# Altium footprint library AltiumDesigner.PcbLib: 3 footprints
Each footprint in its own frame and in the unit in brackets; x right, y up, seen from the top. Pads: shape width x height; smd on the part's side, far side on the other; paste and mask are expansions set on the pad; w line width, h text height; cw(c..) or ccw(c..) is an arc to the next point about the centre after c.
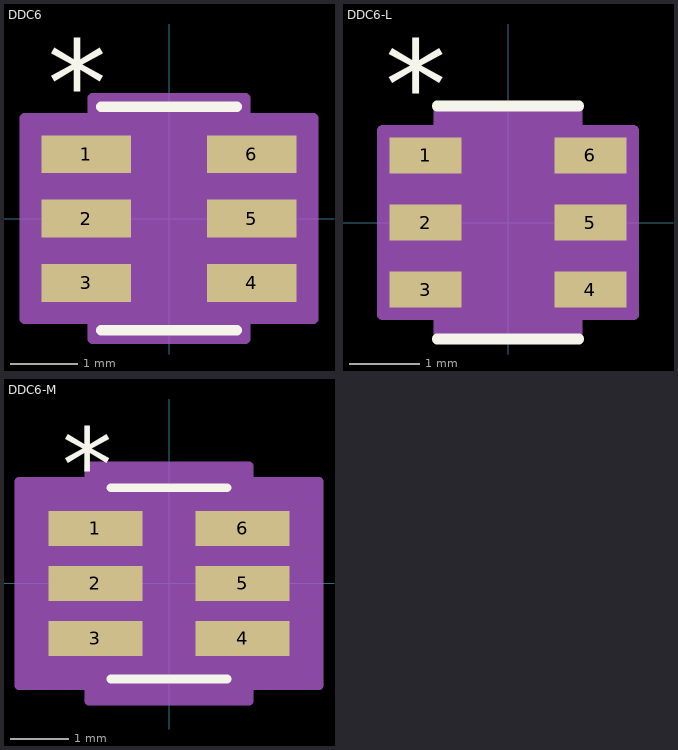
[diagram p0: the footprints below, top view; thin cyan lines are the x and y axes]

## DDC6 [mil]
pads (6):
  rect 52x22 smd paste+0 mask+0: 1(-48,37.4) 2(-48,0) 3(-48,-37.4) 4(48,-37.4) 5(48,0) 6(48,37.4)
Top Overlay:
  lines w6: -39.5,-65 39.5,-65 ; -39.5,65 39.5,65
  text "*" at -70.5,54.4 h50
Mechanical 13:
  lines w0: -12,60 ccw(c0,60) 12,60
  lines w1: -60,-47.4 -60,-27.4 -34.5,-27.4 -34.5,-47.4 -60,-47.4 ; -60,-10 -60,10 -34.5,10 -34.5,-10 -60,-10 ; -60,27.4 -60,47.4 -34.5,47.4 -34.5,27.4 -60,27.4 ; -34.5,-60 34.5,-60 34.5,60 -34.5,60 -34.5,-60 ; 34.5,-47.4 34.5,-27.4 60,-27.4 60,-47.4 34.5,-47.4 ; 34.5,-10 34.5,10 60,10 60,-10 34.5,-10 ; 34.5,27.4 34.5,47.4 60,47.4 60,27.4 34.5,27.4
  text "*" at -32,7 h50
Mechanical 15:
  region: -44.5,-58.4 -84,-58.4 -84,58.4 -44.5,58.4 -44.5,70 44.5,70 44.5,58.4 84,58.4 84,-58.4 44.5,-58.4 44.5,-70 -44.5,-70
  lines w6: -84,-58.4 -84,58.4 -44.5,58.4 -44.5,70 44.5,70 44.5,58.4 84,58.4 84,-58.4 44.5,-58.4 44.5,-70 -44.5,-70 -44.5,-58.4 -84,-58.4
3D body: height 10, standoff 0, extent 0,0 10,10

## DDC6-L [mil]
pads (6):
  rect 40x20 smd paste+0 mask+0: 1(-46,37.4) 2(-46,0) 3(-46,-37.4) 4(46,-37.4) 5(46,0) 6(46,37.4)
Top Overlay:
  lines w6: -39.5,-65 39.5,-65 ; -39.5,65 39.5,65
  text "*" at -68.5,52.4 h50
Mechanical 13:
  lines w0: -12,60 ccw(c0,60) 12,60
  lines w1: -60,-47.4 -60,-27.4 -34.5,-27.4 -34.5,-47.4 -60,-47.4 ; -60,-10 -60,10 -34.5,10 -34.5,-10 -60,-10 ; -60,27.4 -60,47.4 -34.5,47.4 -34.5,27.4 -60,27.4 ; -34.5,-60 34.5,-60 34.5,60 -34.5,60 -34.5,-60 ; 34.5,-47.4 34.5,-27.4 60,-27.4 60,-47.4 34.5,-47.4 ; 34.5,-10 34.5,10 60,10 60,-10 34.5,-10 ; 34.5,27.4 34.5,47.4 60,47.4 60,27.4 34.5,27.4
  text "*" at -32,7 h50
Mechanical 15:
  region: -38.5,-51.4 -70,-51.4 -70,51.4 -38.5,51.4 -38.5,64 38.5,64 38.5,51.4 70,51.4 70,-51.4 38.5,-51.4 38.5,-64 -38.5,-64
  lines w6: -70,-51.4 -70,51.4 -38.5,51.4 -38.5,64 38.5,64 38.5,51.4 70,51.4 70,-51.4 38.5,-51.4 38.5,-64 -38.5,-64 -38.5,-51.4 -70,-51.4
3D body: height 10, standoff 0, extent 0,0 10,10

## DDC6-M [mil]
pads (6):
  rect 64x24 smd paste+0 mask+0: 1(-50,37.4) 2(-50,0) 3(-50,-37.4) 4(50,-37.4) 5(50,0) 6(50,37.4)
Top Overlay:
  lines w6: -39.5,-65 39.5,-65 ; -39.5,65 39.5,65
  text "*" at -72.5,56.4 h50
Mechanical 13:
  lines w0: -12,60 ccw(c0,60) 12,60
  lines w1: -60,-47.4 -60,-27.4 -34.5,-27.4 -34.5,-47.4 -60,-47.4 ; -60,-10 -60,10 -34.5,10 -34.5,-10 -60,-10 ; -60,27.4 -60,47.4 -34.5,47.4 -34.5,27.4 -60,27.4 ; -34.5,-60 34.5,-60 34.5,60 -34.5,60 -34.5,-60 ; 34.5,-47.4 34.5,-27.4 60,-27.4 60,-47.4 34.5,-47.4 ; 34.5,-10 34.5,10 60,10 60,-10 34.5,-10 ; 34.5,27.4 34.5,47.4 60,47.4 60,27.4 34.5,27.4
  text "*" at -32,7 h50
Mechanical 15:
  region: -54.5,-69.4 -102,-69.4 -102,69.4 -54.5,69.4 -54.5,80 54.5,80 54.5,69.4 102,69.4 102,-69.4 54.5,-69.4 54.5,-80 -54.5,-80
  lines w6: -102,-69.4 -102,69.4 -54.5,69.4 -54.5,80 54.5,80 54.5,69.4 102,69.4 102,-69.4 54.5,-69.4 54.5,-80 -54.5,-80 -54.5,-69.4 -102,-69.4
3D body: height 10, standoff 0, extent 0,0 10,10